# Altium integrated library NSC MiscPower.IntLib: 742 symbols (part 15 of 19)
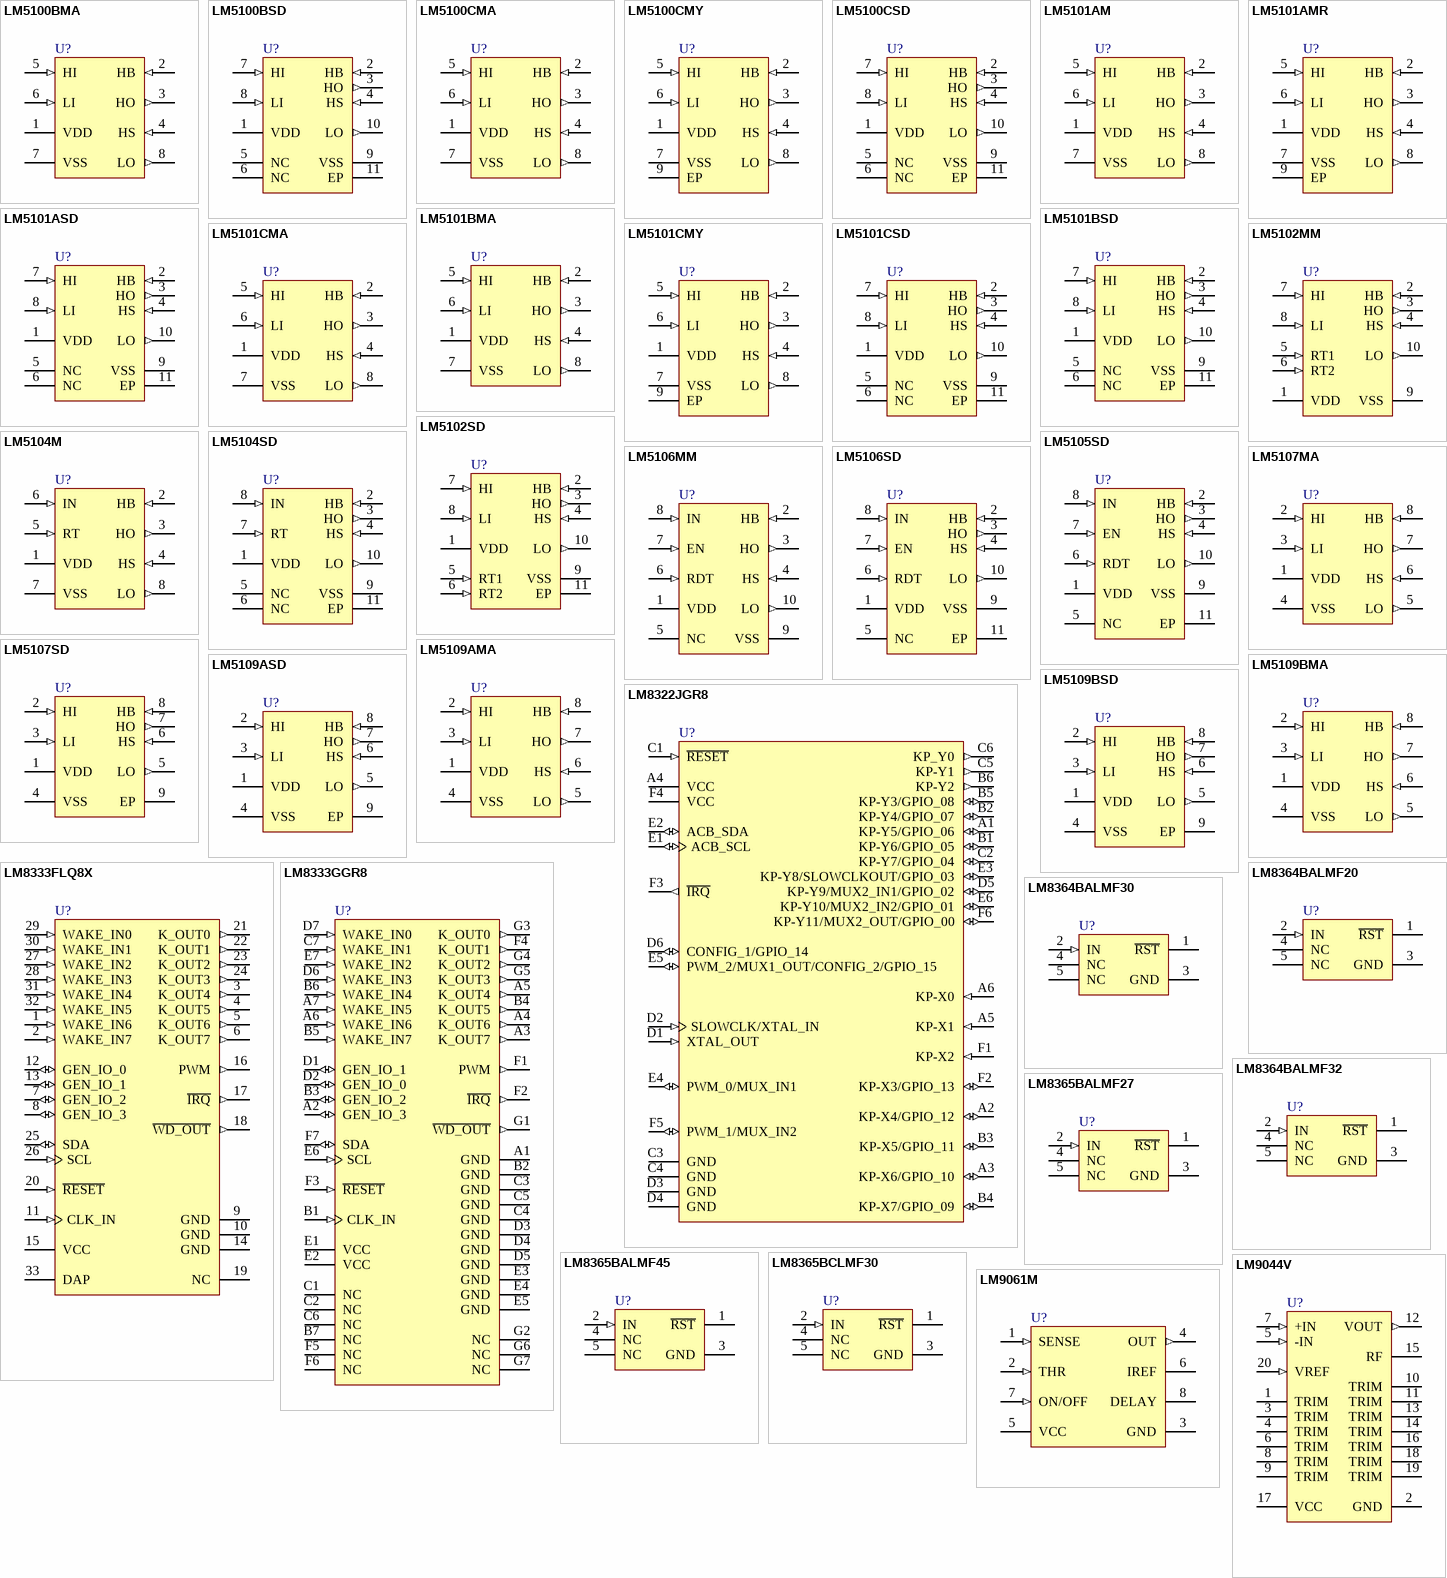
[diagram p39: symbols LM5100BMA to LM9061M]

## LM8364BALMF32
designator U?
Micropower Undervoltage Sensing Circuits, Open Drain Active Low Output, 3.2V Threshold; PartNumber: LM8364BALMF32; Manufacturer: National Semiconductor; CompType: MiscPower; PackageTopMarking: F16A*XTT; PowerWise: N; Published: 4-Dec-2008; DatasheetVersion: Mar-2005; PackageVersion: revD, Aug-2008; PackageReference: MF05A; Publisher: Altium Limited; PackageDescription: Molded SOT-23, .115 x .063 x .040 in Body, 5 Lead, .0375 in Pitch; RoHS: Y; PinCount: 5; DigiKeyPartNumber: LM8364BALMF32CT-ND; ComponentLink1Description: LM8364 Datasheet; ComponentLink1URL: http://www.national.com/ds/LM/LM8364.pdf; ComponentLink2Description: LM8364 Web Page; ComponentLink2URL: http://www.national.com/mpf/LM/LM8364.html; ComponentLink3Description: MF05A Package Page; ComponentLink3URL: http://www.national.com/packaging/folders/mf05a.html
footprint MF05A_N (SOT23, 5-Leads, Body 2.9x1.6mm, Pitch 0.95mm, Lead Span 2.8mm, IPC Medium Density)
footprint MF05A_L (SOT23, 5-Leads, Body 2.9x1.6mm, Pitch 0.95mm, Lead Span 2.8mm, IPC High Density)
footprint MF05A_M (SOT23, 5-Leads, Body 2.9x1.6mm, Pitch 0.95mm, Lead Span 2.8mm, IPC Low Density)
pins: 1 ~{RST} (oc), 2 IN (in), 3 GND (power), 4 NC, 5 NC

## LM8365BALMF27
designator U?
Micropower Undervoltage Sensing Circuits with Programmable Output Delay, 2.7V Threshold; PartNumber: LM8365BALMF27; Manufacturer: National Semiconductor; CompType: MiscPower; PackageTopMarking: F07A*XTT; PowerWise: N; Published: 4-Dec-2008; DatasheetVersion: Mar-2005; PackageVersion: revD, Aug-2008; PackageReference: MF05A; Publisher: Altium Limited; PackageDescription: Molded SOT-23, .115 x .063 x .040 in Body, 5 Lead, .0375 in Pitch; RoHS: Y; PinCount: 5; DigiKeyPartNumber: LM8365BALMF27CT-ND; ComponentLink1Description: LM8365 Datasheet; ComponentLink1URL: http://www.national.com/ds/LM/LM8365.pdf; ComponentLink2Description: LM8365 Web Page; ComponentLink2URL: http://www.national.com/mpf/LM/LM8365.html; ComponentLink3Description: MF05A Package Page; ComponentLink3URL: http://www.national.com/packaging/folders/mf05a.html
footprint MF05A_N (SOT23, 5-Leads, Body 2.9x1.6mm, Pitch 0.95mm, Lead Span 2.8mm, IPC Medium Density)
footprint MF05A_L (SOT23, 5-Leads, Body 2.9x1.6mm, Pitch 0.95mm, Lead Span 2.8mm, IPC High Density)
footprint MF05A_M (SOT23, 5-Leads, Body 2.9x1.6mm, Pitch 0.95mm, Lead Span 2.8mm, IPC Low Density)
pins: 1 ~{RST} (oc), 2 IN (in), 3 GND (power), 4 NC, 5 NC

## LM8365BALMF45
designator U?
Micropower Undervoltage Sensing Circuits with Programmable Output Delay, 4.5V Threshold; PartNumber: LM8365BALMF45; Manufacturer: National Semiconductor; CompType: MiscPower; PackageTopMarking: F06A*XTT; PowerWise: N; Published: 29-May-2009; DatasheetVersion: Mar-2005; PackageVersion: revD, Aug-2008; PackageReference: MF05A; Publisher: Altium Limited; PackageDescription: Molded SOT-23, .115 x .063 x .040 in Body, 5 Lead, .0375 in Pitch; RoHS: Y; PinCount: 5; DigiKeyPartNumber: LM8365BALMF45CT-ND; ComponentLink1Description: LM8365 Datasheet; ComponentLink1URL: http://www.national.com/ds/LM/LM8365.pdf; ComponentLink2Description: LM8365 Web Page; ComponentLink2URL: http://www.national.com/mpf/LM/LM8365.html; ComponentLink3Description: MF05A Package Page; ComponentLink3URL: http://www.national.com/packaging/folders/mf05a.html
footprint MF05A_N (SOT23, 5-Leads, Body 2.9x1.6mm, Pitch 0.95mm, Lead Span 2.8mm, IPC Medium Density)
footprint MF05A_L (SOT23, 5-Leads, Body 2.9x1.6mm, Pitch 0.95mm, Lead Span 2.8mm, IPC High Density)
footprint MF05A_M (SOT23, 5-Leads, Body 2.9x1.6mm, Pitch 0.95mm, Lead Span 2.8mm, IPC Low Density)
pins: 1 ~{RST} (oc), 2 IN (in), 3 GND (power), 4 NC, 5 NC

## LM8365BCLMF30
designator U?
Micropower Undervoltage Sensing Circuits with Programmable Output Delay, 3.0V Threshold; PartNumber: LM8365BCLMF30; Manufacturer: National Semiconductor; CompType: MiscPower; PackageTopMarking: F02A*XTT; PowerWise: N; Published: 29-May-2009; DatasheetVersion: Mar-2005; PackageVersion: revD, Aug-2008; PackageReference: MF05A; Publisher: Altium Limited; PackageDescription: Molded SOT-23, .115 x .063 x .040 in Body, 5 Lead, .0375 in Pitch; RoHS: O; PinCount: 5; DigiKeyPartNumber: LM8365BCLMF30CT-ND; ComponentLink1Description: LM8365 Datasheet; ComponentLink1URL: http://www.national.com/ds/LM/LM8365.pdf; ComponentLink2Description: LM8365 Web Page; ComponentLink2URL: http://www.national.com/mpf/LM/LM8365.html; ComponentLink3Description: MF05A Package Page; ComponentLink3URL: http://www.national.com/packaging/folders/mf05a.html
footprint MF05A_N (SOT23, 5-Leads, Body 2.9x1.6mm, Pitch 0.95mm, Lead Span 2.8mm, IPC Medium Density)
footprint MF05A_L (SOT23, 5-Leads, Body 2.9x1.6mm, Pitch 0.95mm, Lead Span 2.8mm, IPC High Density)
footprint MF05A_M (SOT23, 5-Leads, Body 2.9x1.6mm, Pitch 0.95mm, Lead Span 2.8mm, IPC Low Density)
pins: 1 ~{RST} (oc), 2 IN (in), 3 GND (power), 4 NC, 5 NC

## LM9044V
designator U?
Lambda Sensor Interface Amplifier; PartNumber: LM9044V; Manufacturer: National Semiconductor; CompType: MiscPower; PackageTopMarking: NSUZXYTT*LM9044V; PowerWise: N; Published: 4-Dec-2008; DatasheetVersion: Nov-2001; PackageVersion: revL, Dec-1993; PackageReference: V20A; Publisher: Altium Limited; PackageDescription: Plastic Chip Carrier, Sq., .050in Pitch, 20 Lead; RoHS: Y; PinCount: 20; DigiKeyPartNumber: LM9044V-ND; Code_JEDEC: MO-047-AA; Code_IPC: PLCC-20; ComponentLink1Description: LM9044 Datasheet; ComponentLink1URL: http://www.national.com/ds/LM/LM9044.pdf; ComponentLink2Description: LM9044 Web Page; ComponentLink2URL: http://www.national.com/pf/LM/LM9044.html; ComponentLink3Description: V20A Package Page; ComponentLink3URL: http://www.national.com/packaging/folders/v20a.html
footprint V20A_N (Leaded Chip Carrier, 20-Leads, Body 9x9mm, Pitch 1.27mm, IPC Medium Density)
footprint V20A_L (Leaded Chip Carrier, 20-Leads, Body 9x9mm, Pitch 1.27mm, IPC High Density)
footprint V20A_M (Leaded Chip Carrier, 20-Leads, Body 9x9mm, Pitch 1.27mm, IPC Low Density)
pins: 1 TRIM, 2 GND (power), 3 TRIM, 4 TRIM, 5 -IN (in), 6 TRIM, 7 +IN (in), 8 TRIM, 9 TRIM, 10 TRIM, 11 TRIM, 12 VOUT (out), 13 TRIM, 14 TRIM, 15 RF, 16 TRIM, 17 VCC (power), 18 TRIM, 19 TRIM, 20 VREF (in)

## LM9061M
designator U?
Power MOSFET Driver with Lossless Protection; PartNumber: LM9061M; Manufacturer: National Semiconductor; CompType: MiscPower; PackageTopMarking: NSZXTT*LM90*61M; PowerWise: N; Published: 4-Dec-2008; DatasheetVersion: Aug-2006; PackageVersion: revL, Sep-2006; PackageReference: M08A; Publisher: Altium Limited; PackageDescription: SOIC Narrow, 4.9 x 3.9 x 1.45mm, 8 Lead, 1.27mm Pitch; RoHS: O; PinCount: 8; DigiKeyPartNumber: LM9061M-ND; Code_JEDEC: MS-012-AA; Code_IPC: SOIC127P600-8; ComponentLink1Description: LM9061 Datasheet; ComponentLink1URL: http://www.national.com/ds/LM/LM9061.pdf; ComponentLink2Description: LM9061 Web Page; ComponentLink2URL: http://www.national.com/pf/LM/LM9061.html; ComponentLink3Description: M08A Package Page; ComponentLink3URL: http://www.national.com/packaging/folders/m08a.html
footprint M08A_N (SOIC, 8-Leads, Body 4.9x3.9mm, Pitch 1.27mm, IPC Medium Density)
footprint M08A_L (SOIC, 8-Leads, Body 4.9x3.9mm, Pitch 1.27mm, IPC High Density)
footprint M08A_M (SOIC, 8-Leads, Body 4.9x3.9mm, Pitch 1.27mm, IPC Low Density)
pins: 1 SENSE (in), 2 THR (in), 3 GND (power), 4 OUT (out), 5 VCC (power), 6 IREF, 7 ON/OFF (in), 8 DELAY

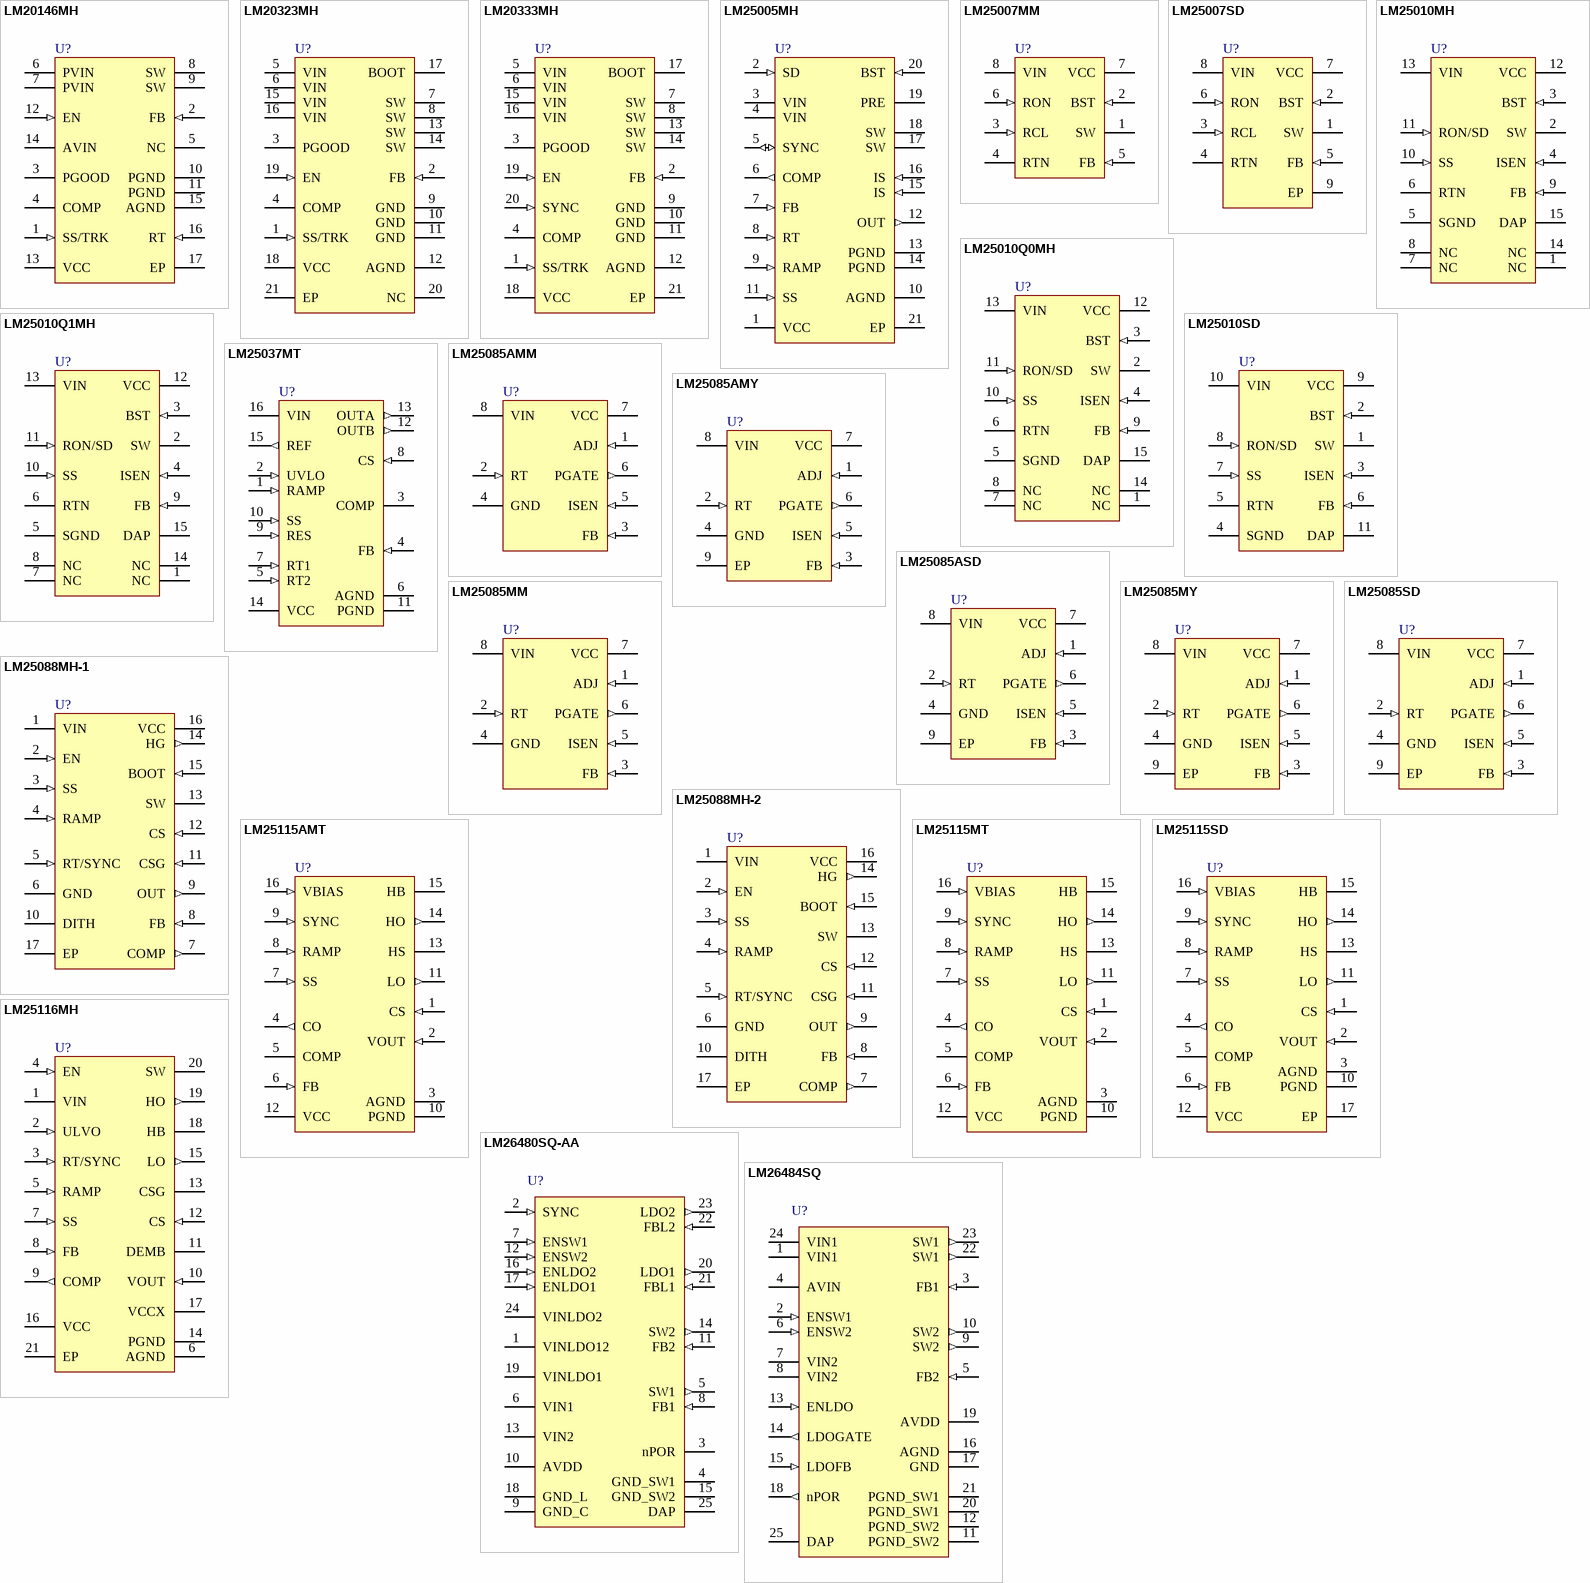
[diagram p17: symbols LM20146MH to LM26484SQ]

## LM20146MH
designator U?
6A, Adjustable Frequency Synchronous Buck Regulator; PartNumber: LM20146MH; Manufacturer: National Semiconductor; CompType: MiscPower; PackageTopMarking: NSUZXYTT*L20146*MH; PowerWise: Y; Published: 29-May-2009; DatasheetVersion: Feb-2009; PackageVersion: revA, Apr-2003; PackageReference: MXA16A; Publisher: Altium Limited; PackageDescription: Molded TSSOP, Jedec, Exposed Pad, 5.0 x 4.4 x 0.9mm Body,16 Lead, 0.65mm Pitch; RoHS: Y; PinCount: 16; DigiKeyPartNumber: LM20146MH-ND; Code_JEDEC: MO-153-ABT; ComponentLink1Description: LM20146 Datasheet; ComponentLink1URL: http://www.national.com/ds/LM/LM20146.pdf; ComponentLink2Description: LM20146 Web Page; ComponentLink2URL: http://www.national.com/pf/LM/LM20146.html; ComponentLink3Description: MXA16A Package Page; ComponentLink3URL: http://www.national.com/packaging/folders/mxa16a.html
footprint MXA16A_N (TSOP, 16-Leads, Body 5x4.4mm, Pitch 0.65mm, Exposed Pad, IPC Medium Density)
footprint MXA16A_L (TSOP, 16-Leads, Body 5x4.4mm, Pitch 0.65mm, Exposed Pad, IPC High Density)
footprint MXA16A_M (TSOP, 16-Leads, Body 5x4.4mm, Pitch 0.65mm, Exposed Pad, IPC Low Density)
pins: 1 SS/TRK (in), 2 FB (in), 3 PGOOD (oc), 4 COMP, 5 NC, 6 PVIN (power), 7 PVIN (power), 8 SW (power), 9 SW (power), 10 PGND (power), 11 PGND (power), 12 EN (in), 13 VCC (power), 14 AVIN (power), 15 AGND (power), 16 RT (in), 17 EP (power)

## LM20323MH
designator U?
36V,3A PowerWise 500 kHz Synchronous Buck Regulator Adjustable Frequency Synchronous Buck Regulator; PartNumber: LM20323MH; Manufacturer: National Semiconductor; CompType: MiscPower; PackageTopMarking: NSUZXYTT*20323MH; PowerWise: Y; Published: 4-Dec-2008; DatasheetVersion: Jun-2008; PackageVersion: revC, Jul-2006; PackageReference: MXA20A; Publisher: Altium Limited; PackageDescription: Molded TSSOP, Jedec, 6.5 x 4.4 x 0.9mm Body, 20 Lead, 0.65mm Pitch, Exposed Pad; RoHS: Y; PinCount: 20; DigiKeyPartNumber: LM20323MH-ND; Code_JEDEC: MO-153-ACT; ComponentLink1Description: LM20323 Datasheet; ComponentLink1URL: http://www.national.com/ds/LM/LM20323.pdf; ComponentLink2Description: LM20323 Web Page; ComponentLink2URL: http://www.national.com/pf/LM/LM20323.html; ComponentLink3Description: MXA20A Package Page; ComponentLink3URL: http://www.national.com/packaging/folders/mxa20a.html
footprint MXA20A_N (TSOP, 20-Leads, Body 6.5x4.4mm, Pitch 0.65mm, Exposed Pad, IPC Medium Density)
footprint MXA20A_L (TSOP, 20-Leads, Body 6.5x4.4mm, Pitch 0.65mm, Exposed Pad, IPC High Density)
footprint MXA20A_M (TSOP, 20-Leads, Body 6.5x4.4mm, Pitch 0.65mm, Exposed Pad, IPC Low Density)
pins: 1 SS/TRK (in), 2 FB (in), 3 PGOOD (oc), 4 COMP, 5 VIN (power), 6 VIN (power), 7 SW (power), 8 SW (power), 9 GND (power), 10 GND (power), 11 GND (power), 12 AGND (power), 13 SW (power), 14 SW (power), 15 VIN (power), 16 VIN (power), 17 BOOT, 18 VCC (power), 19 EN (in), 20 NC, 21 EP (power)

## LM20333MH
designator U?
36V, 3A PowerWise Synchronous Buck Regulator with Frequency Synchronization Adjustable Frequency Synchronous Buck Regulator; PartNumber: LM20333MH; Manufacturer: National Semiconductor; CompType: MiscPower; PackageTopMarking: NSUZXYTT*20333MH; PowerWise: Y; Published: 4-Dec-2008; DatasheetVersion: Jun-2008; PackageVersion: revC, Jul-2006; PackageReference: MXA20A; Publisher: Altium Limited; PackageDescription: Molded TSSOP, Jedec, 6.5 x 4.4 x 0.9mm Body, 20 Lead, 0.65mm Pitch, Exposed Pad; RoHS: Y; PinCount: 20; DigiKeyPartNumber: LM20333MH-ND; Code_JEDEC: MO-153-ACT; ComponentLink1Description: LM20333 Datasheet; ComponentLink1URL: http://www.national.com/ds/LM/LM20333.pdf; ComponentLink2Description: LM20333 Web Page; ComponentLink2URL: http://www.national.com/pf/LM/LM20333.html; ComponentLink3Description: MXA20A Package Page; ComponentLink3URL: http://www.national.com/packaging/folders/mxa20a.html
footprint MXA20A_N (TSOP, 20-Leads, Body 6.5x4.4mm, Pitch 0.65mm, Exposed Pad, IPC Medium Density)
footprint MXA20A_L (TSOP, 20-Leads, Body 6.5x4.4mm, Pitch 0.65mm, Exposed Pad, IPC High Density)
footprint MXA20A_M (TSOP, 20-Leads, Body 6.5x4.4mm, Pitch 0.65mm, Exposed Pad, IPC Low Density)
pins: 1 SS/TRK (in), 2 FB (in), 3 PGOOD (oc), 4 COMP, 5 VIN (power), 6 VIN (power), 7 SW (power), 8 SW (power), 9 GND (power), 10 GND (power), 11 GND (power), 12 AGND (power), 13 SW (power), 14 SW (power), 15 VIN (power), 16 VIN (power), 17 BOOT, 18 VCC (power), 19 EN (in), 20 SYNC (in), 21 EP (power)

## LM25005MH
designator U?
42V, 2.5A Step-Down Switching Regulator; PartNumber: LM25005MH; Manufacturer: National Semiconductor; CompType: MiscPower; PackageTopMarking: NSUZXYTT*LM25005*MH; PowerWise: N; Published: 4-Dec-2008; DatasheetVersion: Mar-2006; PackageVersion: revC, Jul-2006; PackageReference: MXA20A; Publisher: Altium Limited; PackageDescription: Molded TSSOP, Jedec, 6.5 x 4.4 x 0.9mm Body, 20 Lead, 0.65mm Pitch, Exposed Pad; RoHS: Y; PinCount: 20; DigiKeyPartNumber: LM25005MH-ND; Code_JEDEC: MO-153-ACT; ComponentLink1Description: LM25005 Datasheet; ComponentLink1URL: http://www.national.com/ds/LM/LM25005.pdf; ComponentLink2Description: LM25005 Web Page; ComponentLink2URL: http://www.national.com/pf/LM/LM25005.html; ComponentLink3Description: MXA20A Package Page; ComponentLink3URL: http://www.national.com/packaging/folders/mxa20a.html
footprint MXA20A_N (TSOP, 20-Leads, Body 6.5x4.4mm, Pitch 0.65mm, Exposed Pad, IPC Medium Density)
footprint MXA20A_L (TSOP, 20-Leads, Body 6.5x4.4mm, Pitch 0.65mm, Exposed Pad, IPC High Density)
footprint MXA20A_M (TSOP, 20-Leads, Body 6.5x4.4mm, Pitch 0.65mm, Exposed Pad, IPC Low Density)
pins: 1 VCC (power), 2 SD (in), 3 VIN (power), 4 VIN (power), 5 SYNC (io), 6 COMP (out), 7 FB (in), 8 RT (in), 9 RAMP (in), 10 AGND (power), 11 SS (in), 12 OUT (out), 13 PGND (power), 14 PGND (power), 15 IS (in), 16 IS (in), 17 SW (power), 18 SW (power), 19 PRE (oc), 20 BST (in), 21 EP (power)

## LM25007MM
designator U?
42V, 0.5A Step-Down Switching Regulator; PartNumber: LM25007MM; Manufacturer: National Semiconductor; CompType: MiscPower; PackageTopMarking: ZXTT*SLYB; PowerWise: N; Published: 4-Dec-2008; DatasheetVersion: Feb-2008; PackageVersion: revF, Apr-2008; PackageReference: MUA08A; Publisher: Altium Limited; PackageDescription: MINI SOIC, .118 x .118 x .034in, 8 Lead, .0256in Pitch; RoHS: Y; PinCount: 8; DigiKeyPartNumber: LM25007MMCT-ND; Code_JEDEC: MO-187-AA; ComponentLink1Description: LM25007 Datasheet; ComponentLink1URL: http://www.national.com/ds/LM/LM25007.pdf; ComponentLink2Description: LM25007 Web Page; ComponentLink2URL: http://www.national.com/pf/LM/LM25007.html; ComponentLink3Description: MUA08A Package Page; ComponentLink3URL: http://www.national.com/packaging/folders/mua08a.html
footprint MUA08A_N (TSOP, 8-Leads, Body 3x3mm, Pitch 0.65mm, IPC Medium Density)
footprint MUA08A_L (TSOP, 8-Leads, Body 3x3mm, Pitch 0.65mm, IPC High Density)
footprint MUA08A_M (TSOP, 8-Leads, Body 3x3mm, Pitch 0.65mm, IPC Low Density)
pins: 1 SW (power), 2 BST (in), 3 RCL (in), 4 RTN (power), 5 FB (in), 6 RON (in), 7 VCC (power), 8 VIN (power)

## LM25007SD
designator U?
42V, 0.5A Step-Down Switching Regulator; PartNumber: LM25007SD; Manufacturer: National Semiconductor; CompType: MiscPower; PackageTopMarking: NS*UZXYTT*25007SD; PowerWise: N; Published: 4-Dec-2008; DatasheetVersion: Feb-2008; PackageVersion: revA, Jun-2003; PackageReference: SDC08A; Publisher: Altium Limited; PackageDescription: LLP, Plastic, Dual, 4 x 4 x 0.8mm Body, 8 Lead, 0.8mm Pitch, No Pullback; RoHS: Y; PinCount: 8; DigiKeyPartNumber: LM25007SDCT-ND; ComponentLink1Description: LM25007 Datasheet; ComponentLink1URL: http://www.national.com/ds/LM/LM25007.pdf; ComponentLink2Description: LM25007 Web Page; ComponentLink2URL: http://www.national.com/pf/LM/LM25007.html; ComponentLink3Description: SDC08A Package Page; ComponentLink3URL: http://www.national.com/packaging/folders/sdc08a.html
footprint SDC08A (SON, 8-Leads, Body 4x4mm, Pitch 0.8mm, NSC Recommended)
pins: 1 SW (power), 2 BST (in), 3 RCL (in), 4 RTN (power), 5 FB (in), 6 RON (in), 7 VCC (power), 8 VIN (power), 9 EP (power)

## LM25010MH
designator U?
42V, 1.0A Step-Down Switching Regulator; PartNumber: LM25010MH; Manufacturer: National Semiconductor; CompType: MiscPower; PackageTopMarking: NSUZXYTT*L25010*MH; PowerWise: N; Published: 4-Dec-2008; DatasheetVersion: Dec-2008; PackageVersion: revA, Feb-2003; PackageReference: MXA14A; Publisher: Altium Limited; PackageDescription: Molded TSSOP, JEDEC, Exposed Pad, 5.0 x 4.4 x 0.9mm Body, 14 Lead, 0.65mm Pitch; RoHS: Y; PinCount: 14; DigiKeyPartNumber: LM25010MH-ND; Code_JEDEC: MO-153-ABT-1; ComponentLink1Description: LM25010 Datasheet; ComponentLink1URL: http://www.national.com/ds/LM/LM25010.pdf; ComponentLink2Description: LM25010 Web Page; ComponentLink2URL: http://www.national.com/pf/LM/LM25010.html; ComponentLink3Description: MXA14A Package Page; ComponentLink3URL: http://www.national.com/packaging/folders/mxa14a.html
footprint MXA14A_N (TSOP, 14-Leads, Body 5x4.4mm, Pitch 0.65mm, Exposed Pad, IPC Medium Density)
footprint MXA14A_L (TSOP, 14-Leads, Body 5x4.4mm, Pitch 0.65mm, Exposed Pad, IPC High Density)
footprint MXA14A_M (TSOP, 14-Leads, Body 5x4.4mm, Pitch 0.65mm, Exposed Pad, IPC Low Density)
pins: 1 NC, 2 SW (power), 3 BST (in), 4 ISEN (in), 5 SGND (power), 6 RTN (power), 7 NC, 8 NC, 9 FB (in), 10 SS (in), 11 RON/SD (in), 12 VCC (power), 13 VIN (power), 14 NC, 15 DAP (power)

## LM25010Q0MH
designator U?
42V, 1.0A Step-Down Switching Regulator, Automotive Grade 0; PartNumber: LM25010Q0MH; Manufacturer: National Semiconductor; CompType: MiscPower; PackageTopMarking: NSUZXYTT*L25010*Q0MH; PowerWise: N; Published: 29-May-2009; DatasheetVersion: Dec-2008; PackageVersion: revA, Feb-2003; PackageReference: MXA14A; Publisher: Altium Limited; PackageDescription: Molded TSSOP, JEDEC, Exposed Pad, 5.0 x 4.4 x 0.9mm Body, 14 Lead, 0.65mm Pitch; RoHS: Y; PinCount: 14; Code_JEDEC: MO-153-ABT-1; ComponentLink1Description: LM25010 Datasheet; ComponentLink1URL: http://www.national.com/ds/LM/LM25010.pdf; ComponentLink2Description: LM25010 Web Page; ComponentLink2URL: http://www.national.com/pf/LM/LM25010.html; ComponentLink3Description: MXA14A Package Page; ComponentLink3URL: http://www.national.com/packaging/folders/mxa14a.html
footprint MXA14A_N (TSOP, 14-Leads, Body 5x4.4mm, Pitch 0.65mm, Exposed Pad, IPC Medium Density)
footprint MXA14A_L (TSOP, 14-Leads, Body 5x4.4mm, Pitch 0.65mm, Exposed Pad, IPC High Density)
footprint MXA14A_M (TSOP, 14-Leads, Body 5x4.4mm, Pitch 0.65mm, Exposed Pad, IPC Low Density)
pins: 1 NC, 2 SW (power), 3 BST (in), 4 ISEN (in), 5 SGND (power), 6 RTN (power), 7 NC, 8 NC, 9 FB (in), 10 SS (in), 11 RON/SD (in), 12 VCC (power), 13 VIN (power), 14 NC, 15 DAP (power)

## LM25010Q1MH
designator U?
42V, 1.0A Step-Down Switching Regulator, Automotive Grade 1; PartNumber: LM25010Q1MH; Manufacturer: National Semiconductor; CompType: MiscPower; PackageTopMarking: NSUZXYTT*L25010*Q1MH; PowerWise: N; Published: 29-May-2009; DatasheetVersion: Dec-2008; PackageVersion: revA, Feb-2003; PackageReference: MXA14A; Publisher: Altium Limited; PackageDescription: Molded TSSOP, JEDEC, Exposed Pad, 5.0 x 4.4 x 0.9mm Body, 14 Lead, 0.65mm Pitch; RoHS: Y; PinCount: 14; Code_JEDEC: MO-153-ABT-1; ComponentLink1Description: LM25010 Datasheet; ComponentLink1URL: http://www.national.com/ds/LM/LM25010.pdf; ComponentLink2Description: LM25010 Web Page; ComponentLink2URL: http://www.national.com/pf/LM/LM25010.html; ComponentLink3Description: MXA14A Package Page; ComponentLink3URL: http://www.national.com/packaging/folders/mxa14a.html
footprint MXA14A_N (TSOP, 14-Leads, Body 5x4.4mm, Pitch 0.65mm, Exposed Pad, IPC Medium Density)
footprint MXA14A_L (TSOP, 14-Leads, Body 5x4.4mm, Pitch 0.65mm, Exposed Pad, IPC High Density)
footprint MXA14A_M (TSOP, 14-Leads, Body 5x4.4mm, Pitch 0.65mm, Exposed Pad, IPC Low Density)
pins: 1 NC, 2 SW (power), 3 BST (in), 4 ISEN (in), 5 SGND (power), 6 RTN (power), 7 NC, 8 NC, 9 FB (in), 10 SS (in), 11 RON/SD (in), 12 VCC (power), 13 VIN (power), 14 NC, 15 DAP (power)

## LM25010SD
designator U?
42V, 1.0A Step-Down Switching Regulator; PartNumber: LM25010SD; Manufacturer: National Semiconductor; CompType: MiscPower; PackageTopMarking: NS*UZXYTT*25010SD; PowerWise: N; Published: 4-Dec-2008; DatasheetVersion: Dec-2008; PackageVersion: revA, May-2003; PackageReference: SDC10A; Publisher: Altium Limited; PackageDescription: LLP, Plastic, Dual, 4 x 4 x 0.8mm Body, 10 Lead, 0.8mm Pitch, No Pullback; RoHS: Y; PinCount: 10; DigiKeyPartNumber: LM25010SDCT-ND; ComponentLink1Description: LM25010 Datasheet; ComponentLink1URL: http://www.national.com/ds/LM/LM25010.pdf; ComponentLink2Description: LM25010 Web Page; ComponentLink2URL: http://www.national.com/pf/LM/LM25010.html; ComponentLink3Description: SDC10A Package Page; ComponentLink3URL: http://www.national.com/packaging/folders/sdc10a.html
footprint SDC10A (SON, 10-Leads, Body 4x4 mm, Pitch 0.8mm, NSC Recommended)
pins: 1 SW (power), 2 BST (in), 3 ISEN (in), 4 SGND (power), 5 RTN (power), 6 FB (in), 7 SS (in), 8 RON/SD (in), 9 VCC (power), 10 VIN (power), 11 DAP (power)

## LM25037MT
designator U?
Dual-Mode PWM Controller With Alternating Outputs; PartNumber: LM25037MT; Manufacturer: National Semiconductor; CompType: MiscPower; PackageTopMarking: NSUZXYTT*L25037*MT; PowerWise: Y; Published: 4-Dec-2008; DatasheetVersion: Jul-2008; PackageVersion: revD, Jun-2003; PackageReference: MTC16; Publisher: Altium Limited; PackageDescription: Molded TSSOP, Jedec, 5 x 4.4 x 0.9mm Body, 16 Lead, 0.65mm Pitch; RoHS: Y; PinCount: 16; DigiKeyPartNumber: LM25037MT-ND; Code_JEDEC: MO-153-AB; ComponentLink1Description: LM25037 Datasheet; ComponentLink1URL: http://www.national.com/ds/LM/LM25037.pdf; ComponentLink2Description: LM25037 Web Page; ComponentLink2URL: http://www.national.com/pf/LM/LM25037.html; ComponentLink3Description: MTC16 Package Page; ComponentLink3URL: http://www.national.com/packaging/folders/mtc16.html
footprint MTC16_N (TSOP, 16-Leads, Body 5x4.4mm, Pitch 0.65mm, IPC Medium Density)
footprint MTC16_L (TSOP, 16-Leads, Body 5x4.4mm, Pitch 0.65mm, IPC High Density)
footprint MTC16_M (TSOP, 16-Leads, Body 5x4.4mm, Pitch 0.65mm, IPC Low Density)
pins: 1 RAMP (in), 2 UVLO (in), 3 COMP, 4 FB (in), 5 RT2 (in), 6 AGND (power), 7 RT1 (in), 8 CS (in), 9 RES (in), 10 SS (in), 11 PGND (power), 12 OUTB (out), 13 OUTA (out), 14 VCC (power), 15 REF (out), 16 VIN (power)

## LM25085AMM
designator U?
42V Constant On-Time PFET Buck Switching Controller with 0.9V Reference; PartNumber: LM25085AMM; Manufacturer: National Semiconductor; CompType: MiscPower; PackageTopMarking: ZXTT*SVZA; PowerWise: N; Published: 29-May-2009; DatasheetVersion: Mar-2009; PackageVersion: revF, Apr-2008; PackageReference: MUA08A; Publisher: Altium Limited; PackageDescription: MINI SOIC, .118 x .118 x .034in, 8 Lead, .0256in Pitch; RoHS: Y; PinCount: 8; Code_JEDEC: MO-187-AA; ComponentLink1Description: LM25085 Datasheet; ComponentLink1URL: http://www.national.com/ds/LM/LM25085A.pdf; ComponentLink2Description: LM25085 Web Page; ComponentLink2URL: http://www.national.com/pf/LM/LM25085A.html; ComponentLink3Description: MUA08A Package Page; ComponentLink3URL: http://www.national.com/packaging/folders/mua08a.html
footprint MUA08A_N (TSOP, 8-Leads, Body 3x3mm, Pitch 0.65mm, IPC Medium Density)
footprint MUA08A_L (TSOP, 8-Leads, Body 3x3mm, Pitch 0.65mm, IPC High Density)
footprint MUA08A_M (TSOP, 8-Leads, Body 3x3mm, Pitch 0.65mm, IPC Low Density)
pins: 1 ADJ (in), 2 RT (in), 3 FB (in), 4 GND (power), 5 ISEN (in), 6 PGATE (out), 7 VCC (power), 8 VIN (power)

## LM25085AMY
designator U?
42V Constant On-Time PFET Buck Switching Controller with 0.9V Reference; PartNumber: LM25085AMY; Manufacturer: National Semiconductor; CompType: MiscPower; PackageTopMarking: ZXTT*SVYA; PowerWise: N; Published: 29-May-2009; DatasheetVersion: Mar-2009; PackageVersion: revA, Nov-2003; PackageReference: MUY08A; Publisher: Altium Limited; PackageDescription: Molded Mini-SO, Exposed Pad, .118 x .118 x .034in Body, 8 Lead, .0256in Pitch; RoHS: Y; PinCount: 8; Code_JEDEC: MO-187-AA; ComponentLink1Description: LM25085 Datasheet; ComponentLink1URL: http://www.national.com/ds/LM/LM25085A.pdf; ComponentLink2Description: LM25085 Web Page; ComponentLink2URL: http://www.national.com/pf/LM/LM25085A.html; ComponentLink3Description: MUY08A Package Page; ComponentLink3URL: http://www.national.com/packaging/folders/muy08a.html
footprint MUY08A_N (TSOP, 8-Leads, Body 3x3mm, Pitch 0.65mm, Exposed Pad, IPC Medium Density)
footprint MUY08A_L (TSOP, 8-Leads, Body 3x3mm, Pitch 0.65mm, Exposed Pad, IPC High Density)
footprint MUY08A_M (TSOP, 8-Leads, Body 3x3mm, Pitch 0.65mm, Exposed Pad, IPC Low Density)
pins: 1 ADJ (in), 2 RT (in), 3 FB (in), 4 GND (power), 5 ISEN (in), 6 PGATE (out), 7 VCC (power), 8 VIN (power), 9 EP (power)

## LM25085ASD
designator U?
42V Constant On-Time PFET Buck Switching Controller with 0.9V Reference; PartNumber: LM25085ASD; Manufacturer: National Semiconductor; CompType: MiscPower; PackageTopMarking: ZXYTT*L246A; PowerWise: N; Published: 29-May-2009; DatasheetVersion: Mar-2009; PackageVersion: revA, Aug-2003; PackageReference: SDA08A; Publisher: Altium Limited; PackageDescription: LLP, Plastic, Dual, 3 x 3 x 0.8mm Body, 8 Lead, 0.5mm Pitch, No Pullback; RoHS: Y; PinCount: 8; ComponentLink1Description: LM25085 Datasheet; ComponentLink1URL: http://www.national.com/ds/LM/LM25085A.pdf; ComponentLink2Description: LM25085 Web Page; ComponentLink2URL: http://www.national.com/pf/LM/LM25085A.html; ComponentLink3Description: SDA08A Package Page; ComponentLink3URL: http://www.national.com/packaging/folders/sda08a.html
footprint SDA08A (SON, 8-Leads, Body 3x3mm, Pitch 0.5mm, NSC Recommended)
pins: 1 ADJ (in), 2 RT (in), 3 FB (in), 4 GND (power), 5 ISEN (in), 6 PGATE (out), 7 VCC (power), 8 VIN (power), 9 EP (power)

## LM25085MM
designator U?
42V Constant On-Time PFET Buck Switching Controller, PowerWise; PartNumber: LM25085MM; Manufacturer: National Semiconductor; CompType: MiscPower; PackageTopMarking: ZXTT*SVZB; PowerWise: Y; Published: 29-May-2009; DatasheetVersion: Feb-2009; PackageVersion: revF, Apr-2008; PackageReference: MUA08A; Publisher: Altium Limited; PackageDescription: MINI SOIC, .118 x .118 x .034in, 8 Lead, .0256in Pitch; RoHS: Y; PinCount: 8; DigiKeyPartNumber: LM25085MMCT-ND; Code_JEDEC: MO-187-AA; ComponentLink1Description: LM25085 Datasheet; ComponentLink1URL: http://www.national.com/ds/LM/LM25085.pdf; ComponentLink2Description: LM25085 Web Page; ComponentLink2URL: http://www.national.com/pf/LM/LM25085.html; ComponentLink3Description: MUA08A Package Page; ComponentLink3URL: http://www.national.com/packaging/folders/mua08a.html
footprint MUA08A_N (TSOP, 8-Leads, Body 3x3mm, Pitch 0.65mm, IPC Medium Density)
footprint MUA08A_L (TSOP, 8-Leads, Body 3x3mm, Pitch 0.65mm, IPC High Density)
footprint MUA08A_M (TSOP, 8-Leads, Body 3x3mm, Pitch 0.65mm, IPC Low Density)
pins: 1 ADJ (in), 2 RT (in), 3 FB (in), 4 GND (power), 5 ISEN (in), 6 PGATE (out), 7 VCC (power), 8 VIN (power)

## LM25085MY
designator U?
42V Constant On-Time PFET Buck Switching Controller, PowerWise; PartNumber: LM25085MY; Manufacturer: National Semiconductor; CompType: MiscPower; PackageTopMarking: ZXTT*SVYB; PowerWise: Y; Published: 29-May-2009; DatasheetVersion: Feb-2009; PackageVersion: revA, Nov-2003; PackageReference: MUY08A; Publisher: Altium Limited; PackageDescription: Molded Mini-SO, Exposed Pad, .118 x .118 x .034in Body, 8 Lead, .0256in Pitch; RoHS: Y; PinCount: 8; DigiKeyPartNumber: LM25085MY-ND; Code_JEDEC: MO-187-AA; ComponentLink1Description: LM25085 Datasheet; ComponentLink1URL: http://www.national.com/ds/LM/LM25085.pdf; ComponentLink2Description: LM25085 Web Page; ComponentLink2URL: http://www.national.com/pf/LM/LM25085.html; ComponentLink3Description: MUY08A Package Page; ComponentLink3URL: http://www.national.com/packaging/folders/muy08a.html
footprint MUY08A_N (TSOP, 8-Leads, Body 3x3mm, Pitch 0.65mm, Exposed Pad, IPC Medium Density)
footprint MUY08A_L (TSOP, 8-Leads, Body 3x3mm, Pitch 0.65mm, Exposed Pad, IPC High Density)
footprint MUY08A_M (TSOP, 8-Leads, Body 3x3mm, Pitch 0.65mm, Exposed Pad, IPC Low Density)
pins: 1 ADJ (in), 2 RT (in), 3 FB (in), 4 GND (power), 5 ISEN (in), 6 PGATE (out), 7 VCC (power), 8 VIN (power), 9 EP (power)

## LM25085SD
designator U?
42V Constant On-Time PFET Buck Switching Controller, PowerWise; PartNumber: LM25085SD; Manufacturer: National Semiconductor; CompType: MiscPower; PackageTopMarking: ZXYTT*L246B; PowerWise: Y; Published: 29-May-2009; DatasheetVersion: Feb-2009; PackageVersion: revA, Aug-2003; PackageReference: SDA08A; Publisher: Altium Limited; PackageDescription: LLP, Plastic, Dual, 3 x 3 x 0.8mm Body, 8 Lead, 0.5mm Pitch, No Pullback; RoHS: Y; PinCount: 8; DigiKeyPartNumber: LM25085SD-ND; ComponentLink1Description: LM25085 Datasheet; ComponentLink1URL: http://www.national.com/ds/LM/LM25085.pdf; ComponentLink2Description: LM25085 Web Page; ComponentLink2URL: http://www.national.com/pf/LM/LM25085.html; ComponentLink3Description: SDA08A Package Page; ComponentLink3URL: http://www.national.com/packaging/folders/sda08a.html
footprint SDA08A (SON, 8-Leads, Body 3x3mm, Pitch 0.5mm, NSC Recommended)
pins: 1 ADJ (in), 2 RT (in), 3 FB (in), 4 GND (power), 5 ISEN (in), 6 PGATE (out), 7 VCC (power), 8 VIN (power), 9 EP (power)

## LM25088MH-1
designator U?
Wide Input Range Non-Synchronous Buck Controller, PowerWise; PartNumber: LM25088MH-1; Manufacturer: National Semiconductor; CompType: MiscPower; PackageTopMarking: NSUZXYTT*L25088*MH-1; PowerWise: Y; Published: 29-May-2009; DatasheetVersion: Dec-2008; PackageVersion: revA, Apr-2003; PackageReference: MXA16A; Publisher: Altium Limited; PackageDescription: Molded TSSOP, Jedec, Exposed Pad, 5.0 x 4.4 x 0.9mm Body,16 Lead, 0.65mm Pitch; RoHS: Y; PinCount: 16; DigiKeyPartNumber: LM25088MH-1-ND; Code_JEDEC: MO-153-ABT; ComponentLink1Description: LM25088 Datasheet; ComponentLink1URL: http://www.national.com/ds/LM/LM25088.pdf; ComponentLink2Description: LM25088 Web Page; ComponentLink2URL: http://www.national.com/pf/LM/LM25088.html; ComponentLink3Description: MXA16A Package Page; ComponentLink3URL: http://www.national.com/packaging/folders/mxa16a.html
footprint MXA16A_N (TSOP, 16-Leads, Body 5x4.4mm, Pitch 0.65mm, Exposed Pad, IPC Medium Density)
footprint MXA16A_L (TSOP, 16-Leads, Body 5x4.4mm, Pitch 0.65mm, Exposed Pad, IPC High Density)
footprint MXA16A_M (TSOP, 16-Leads, Body 5x4.4mm, Pitch 0.65mm, Exposed Pad, IPC Low Density)
pins: 1 VIN (power), 2 EN (in), 3 SS (in), 4 RAMP (in), 5 RT/SYNC (in), 6 GND (power), 7 COMP (out), 8 FB (in), 9 OUT (out), 10 DITH (power), 11 CSG (in), 12 CS (in), 13 SW, 14 HG (out), 15 BOOT (in), 16 VCC (power), 17 EP (power)

## LM25088MH-2
designator U?
Wide Input Range Non-Synchronous Buck Controller, PowerWise; PartNumber: LM25088MH-2; Manufacturer: National Semiconductor; CompType: MiscPower; PackageTopMarking: NSUZXYTT*L25088*MH-2; PowerWise: Y; Published: 29-May-2009; DatasheetVersion: Dec-2008; PackageVersion: revA, Apr-2003; PackageReference: MXA16A; Publisher: Altium Limited; PackageDescription: Molded TSSOP, Jedec, Exposed Pad, 5.0 x 4.4 x 0.9mm Body,16 Lead, 0.65mm Pitch; RoHS: Y; PinCount: 16; DigiKeyPartNumber: LM25088MH-2-ND; Code_JEDEC: MO-153-ABT; ComponentLink1Description: LM25088 Datasheet; ComponentLink1URL: http://www.national.com/ds/LM/LM25088.pdf; ComponentLink2Description: LM25088 Web Page; ComponentLink2URL: http://www.national.com/pf/LM/LM25088.html; ComponentLink3Description: MXA16A Package Page; ComponentLink3URL: http://www.national.com/packaging/folders/mxa16a.html
footprint MXA16A_N (TSOP, 16-Leads, Body 5x4.4mm, Pitch 0.65mm, Exposed Pad, IPC Medium Density)
footprint MXA16A_L (TSOP, 16-Leads, Body 5x4.4mm, Pitch 0.65mm, Exposed Pad, IPC High Density)
footprint MXA16A_M (TSOP, 16-Leads, Body 5x4.4mm, Pitch 0.65mm, Exposed Pad, IPC Low Density)
pins: 1 VIN (power), 2 EN (in), 3 SS (in), 4 RAMP (in), 5 RT/SYNC (in), 6 GND (power), 7 COMP (out), 8 FB (in), 9 OUT (out), 10 DITH (power), 11 CSG (in), 12 CS (in), 13 SW, 14 HG (out), 15 BOOT (in), 16 VCC (power), 17 EP (power)

## LM25115AMT
designator U?
Secondary Side Post Regulator/DC-DC Converter with Power-Up/Power-Down Tracking; PartNumber: LM25115AMT; Manufacturer: National Semiconductor; CompType: MiscPower; PackageTopMarking: NSUZXYTT*L25115*AMT; PowerWise: N; Published: 4-Dec-2008; DatasheetVersion: Nov-2005; PackageVersion: revD, Jun-2003; PackageReference: MTC16; Publisher: Altium Limited; PackageDescription: Molded TSSOP, Jedec, 5 x 4.4 x 0.9mm Body, 16 Lead, 0.65mm Pitch; RoHS: Y; PinCount: 16; DigiKeyPartNumber: LM25115AMT-ND; Code_JEDEC: MO-153-AB; ComponentLink1Description: LM25115A Datasheet; ComponentLink1URL: http://www.national.com/ds/LM/LM25115A.pdf; ComponentLink2Description: LM25115A Web Page; ComponentLink2URL: http://www.national.com/pf/LM/LM25115A.html; ComponentLink3Description: MTC16 Package Page; ComponentLink3URL: http://www.national.com/packaging/folders/mtc16.html
footprint MTC16_N (TSOP, 16-Leads, Body 5x4.4mm, Pitch 0.65mm, IPC Medium Density)
footprint MTC16_L (TSOP, 16-Leads, Body 5x4.4mm, Pitch 0.65mm, IPC High Density)
footprint MTC16_M (TSOP, 16-Leads, Body 5x4.4mm, Pitch 0.65mm, IPC Low Density)
pins: 1 CS (in), 2 VOUT (in), 3 AGND (power), 4 CO (out), 5 COMP, 6 FB (in), 7 SS (in), 8 RAMP (in), 9 SYNC (in), 10 PGND (power), 11 LO (out), 12 VCC (power), 13 HS, 14 HO (out), 15 HB, 16 VBIAS (in)

## LM25115MT
designator U?
Secondary Side Post Regulator Controller; PartNumber: LM25115MT; Manufacturer: National Semiconductor; CompType: MiscPower; PackageTopMarking: NSUZXYTT*L25115*MT; PowerWise: N; Published: 4-Dec-2008; DatasheetVersion: Nov-2005; PackageVersion: revD, Jun-2003; PackageReference: MTC16; Publisher: Altium Limited; PackageDescription: Molded TSSOP, Jedec, 5 x 4.4 x 0.9mm Body, 16 Lead, 0.65mm Pitch; RoHS: Y; PinCount: 16; DigiKeyPartNumber: LM25115MT-ND; Code_JEDEC: MO-153-AB; ComponentLink1Description: LM25115 Datasheet; ComponentLink1URL: http://www.national.com/ds/LM/LM25115.pdf; ComponentLink2Description: LM25115 Web Page; ComponentLink2URL: http://www.national.com/pf/LM/LM25115.html; ComponentLink3Description: MTC16 Package Page; ComponentLink3URL: http://www.national.com/packaging/folders/mtc16.html
footprint MTC16_N (TSOP, 16-Leads, Body 5x4.4mm, Pitch 0.65mm, IPC Medium Density)
footprint MTC16_L (TSOP, 16-Leads, Body 5x4.4mm, Pitch 0.65mm, IPC High Density)
footprint MTC16_M (TSOP, 16-Leads, Body 5x4.4mm, Pitch 0.65mm, IPC Low Density)
pins: 1 CS (in), 2 VOUT (in), 3 AGND (power), 4 CO (out), 5 COMP, 6 FB (in), 7 SS (in), 8 RAMP (in), 9 SYNC (in), 10 PGND (power), 11 LO (out), 12 VCC (power), 13 HS, 14 HO (out), 15 HB, 16 VBIAS (in)

## LM25115SD
designator U?
Secondary Side Post Regulator Controller; PartNumber: LM25115SD; Manufacturer: National Semiconductor; CompType: MiscPower; PackageTopMarking: NS*UZXYTT*L25115; PowerWise: N; Published: 4-Dec-2008; DatasheetVersion: Nov-2005; PackageVersion: revA, May-2003; PackageReference: SDA16A; Publisher: Altium Limited; PackageDescription: LLP, Plastic, Dual, 5 x 5 x 0.8mm Body,16 Lead, 0.5mm Pitch, No Pullback; RoHS: Y; PinCount: 16; DigiKeyPartNumber: LM25115SDCT-ND; ComponentLink1Description: LM25115 Datasheet; ComponentLink1URL: http://www.national.com/ds/LM/LM25115.pdf; ComponentLink2Description: LM25115 Web Page; ComponentLink2URL: http://www.national.com/pf/LM/LM25115.html; ComponentLink3Description: SDA16A Package Page; ComponentLink3URL: http://www.national.com/packaging/folders/sda16a.html
footprint SDA16A (SON, 16-Leads, Body 5x5mm, Pitch 0.5mm, NSC Recommended)
pins: 1 CS (in), 2 VOUT (in), 3 AGND (power), 4 CO (out), 5 COMP, 6 FB (in), 7 SS (in), 8 RAMP (in), 9 SYNC (in), 10 PGND (power), 11 LO (out), 12 VCC (power), 13 HS, 14 HO (out), 15 HB, 16 VBIAS (in), 17 EP (power)

## LM25116MH
designator U?
Wide Range Synchronous Buck Controller; PartNumber: LM25116MH; Manufacturer: National Semiconductor; CompType: MiscPower; PackageTopMarking: NSUZXYTT*LM25116*MH; PowerWise: Y; Published: 4-Dec-2008; DatasheetVersion: Apr-2007; PackageVersion: revC, Jul-2006; PackageReference: MXA20A; Publisher: Altium Limited; PackageDescription: Molded TSSOP, Jedec, 6.5 x 4.4 x 0.9mm Body, 20 Lead, 0.65mm Pitch, Exposed Pad; RoHS: Y; PinCount: 20; DigiKeyPartNumber: LM25116MH-ND; Code_JEDEC: MO-153-ACT; ComponentLink1Description: LM25116 Datasheet; ComponentLink1URL: http://www.national.com/ds/LM/LM25116.pdf; ComponentLink2Description: LM25116 Web Page; ComponentLink2URL: http://www.national.com/pf/LM/LM25116.html; ComponentLink3Description: MXA20A Package Page; ComponentLink3URL: http://www.national.com/packaging/folders/mxa20a.html
footprint MXA20A_N (TSOP, 20-Leads, Body 6.5x4.4mm, Pitch 0.65mm, Exposed Pad, IPC Medium Density)
footprint MXA20A_L (TSOP, 20-Leads, Body 6.5x4.4mm, Pitch 0.65mm, Exposed Pad, IPC High Density)
footprint MXA20A_M (TSOP, 20-Leads, Body 6.5x4.4mm, Pitch 0.65mm, Exposed Pad, IPC Low Density)
pins: 1 VIN (power), 2 ULVO (in), 3 RT/SYNC (in), 4 EN (in), 5 RAMP (in), 6 AGND (power), 7 SS (in), 8 FB (in), 9 COMP (out), 10 VOUT (in), 11 DEMB, 12 CS (in), 13 CSG, 14 PGND (power), 15 LO (out), 16 VCC (power), 17 VCCX (power), 18 HB, 19 HO (out), 20 SW (power), 21 EP (power)

## LM26480SQ-AA
designator U?
Externally Programmable Dual High-Current Step-Down DC/DC and Dual Linear Regulators; PartNumber: LM26480SQ-AA; Manufacturer: National Semiconductor; CompType: MiscPower; PackageTopMarking: NS*UZXYTT*26480AA; PowerWise: N; Published: 4-Dec-2008; DatasheetVersion: Sep-2008; PackageVersion: revB, Aug-2003; PackageReference: SQA24A; Publisher: Altium Limited; PackageDescription: LLP, Plastic, Quad, 4 x 4 x 0.8mm Body, 24 Lead, 0.5mm Pitch, No Pullback; RoHS: Y; PinCount: 24; DigiKeyPartNumber: LM26480SQ-AAEV-ND; Code_JEDEC: MO-220-WGGD-6; ComponentLink1Description: LM26480 Datasheet; ComponentLink1URL: http://www.national.com/ds/LM/LM26480.pdf; ComponentLink2Description: LM26480 Web Page; ComponentLink2URL: http://www.national.com/pf/LM/LM26480.html; ComponentLink3Description: SQA24A Package Page; ComponentLink3URL: http://www.national.com/packaging/folders/sqa24a.html
footprint SQA24A (QFN, 24-Leads, Body 4x4mm, Pitch 0.5mm, NSC Recommended)
pins: 1 VINLDO12 (power) "Analog Power for Internal Functions (VREF, BIAS, I2C, Logic)", 2 SYNC (in) "Frequency Synchronization pin.", 3 nPOR (oc) "nPOR Power on reset pin for both Buck1 and Buck 2.", 4 GND_SW1 (power) "Buck1 NMOS Power Ground", 5 SW1 (out) "Buck1 switcher output pin", 6 VIN1 (power) "Power in from either DC source or Battery to Buck1", 7 ENSW1 (in) "Enable Pin for Buck1 switcher, a logic HIGH enables Buck1. Pin cannot be left floating.", 8 FB1 (in) "Buck1 input feedback terminal", 9 GND_C (power) "Non-switching core ground pin", 10 AVDD (power) "Analog Power for Buck converters", 11 FB2 (in) "Buck2 input feedback terminal", 12 ENSW2 (in) "Enable Pin for Buck2 switcher, a logic HIGH enables Buck2. Pin cannot be left floating.", 13 VIN2 (power) "Power in from either DC source or Battery to Buck2", 14 SW2 (out) "Buck2 switcher output pin", 15 GND_SW2 (power) "Buck2 NMOS", 16 ENLDO2 (in) "LDO2 enable pin, a logic HIGH enables LDO2. Pin cannot be left floating.", 17 ENLDO1 (in) "LDO1 enable pin, a logic HIGH enables LDO1. Pin cannot be left floating.", 18 GND_L (power) "LDO ground", 19 VINLDO1 (power) "Power in from either DC source or battery to LDO1", 20 LDO1 (out) "LDO1 Output", 21 FBL1 (in) "LDO1 Feedback Terminal", 22 FBL2 (in) "LDO2 Feedback Terminal", 23 LDO2 (out) "LDO Output", 24 VINLDO2 (power) "Power in from either DC source or battery to LDO2.", 25 DAP (power)

## LM26484SQ
designator U?
Power Management Unit with Step-Down DC-DC Converters and LDO Controller; PartNumber: LM26484SQ; Manufacturer: National Semiconductor; CompType: MiscPower; PackageTopMarking: NS*UZXYTT*26484SQ; PowerWise: N; Published: 29-May-2009; DatasheetVersion: Nov-2008; PackageVersion: revA, Oct-2003; PackageReference: SQA24B; Publisher: Altium Limited; PackageDescription: LLP, Plastic, Quad, 5 x 4 x 0.8mm Body, 24 Lead, 0.5mm Pitch, No Pullback; RoHS: Y; PinCount: 24; DigiKeyPartNumber: LM26484SQ-ND; Code_JEDEC: MO-220-WGHD-1; ComponentLink1Description: LM26484 Datasheet; ComponentLink1URL: http://www.national.com/ds/LM/LM26484.pdf; ComponentLink2Description: LM26484 Web Page; ComponentLink2URL: http://www.national.com/pf/LM/LM26484.html; ComponentLink3Description: SQA24B Package Page; ComponentLink3URL: http://www.national.com/packaging/folders/sqa24b.html
footprint SQA24B (QFN, 24-Leads, Body 5x4mm, Pitch 0.5mm, NSC Recommended)
pins: 1 VIN1 (power), 2 ENSW1 (in), 3 FB1 (in), 4 AVIN (power), 5 FB2 (in), 6 ENSW2 (in), 7 VIN2 (power), 8 VIN2 (power), 9 SW2 (out), 10 SW2 (out), 11 PGND_SW2 (power), 12 PGND_SW2 (power), 13 ENLDO (in), 14 LDOGATE (out), 15 LDOFB (in), 16 AGND (power), 17 GND (power), 18 nPOR (out), 19 AVDD (power), 20 PGND_SW1 (power), 21 PGND_SW1 (power), 22 SW1 (out), 23 SW1 (out), 24 VIN1 (power), 25 DAP (power)

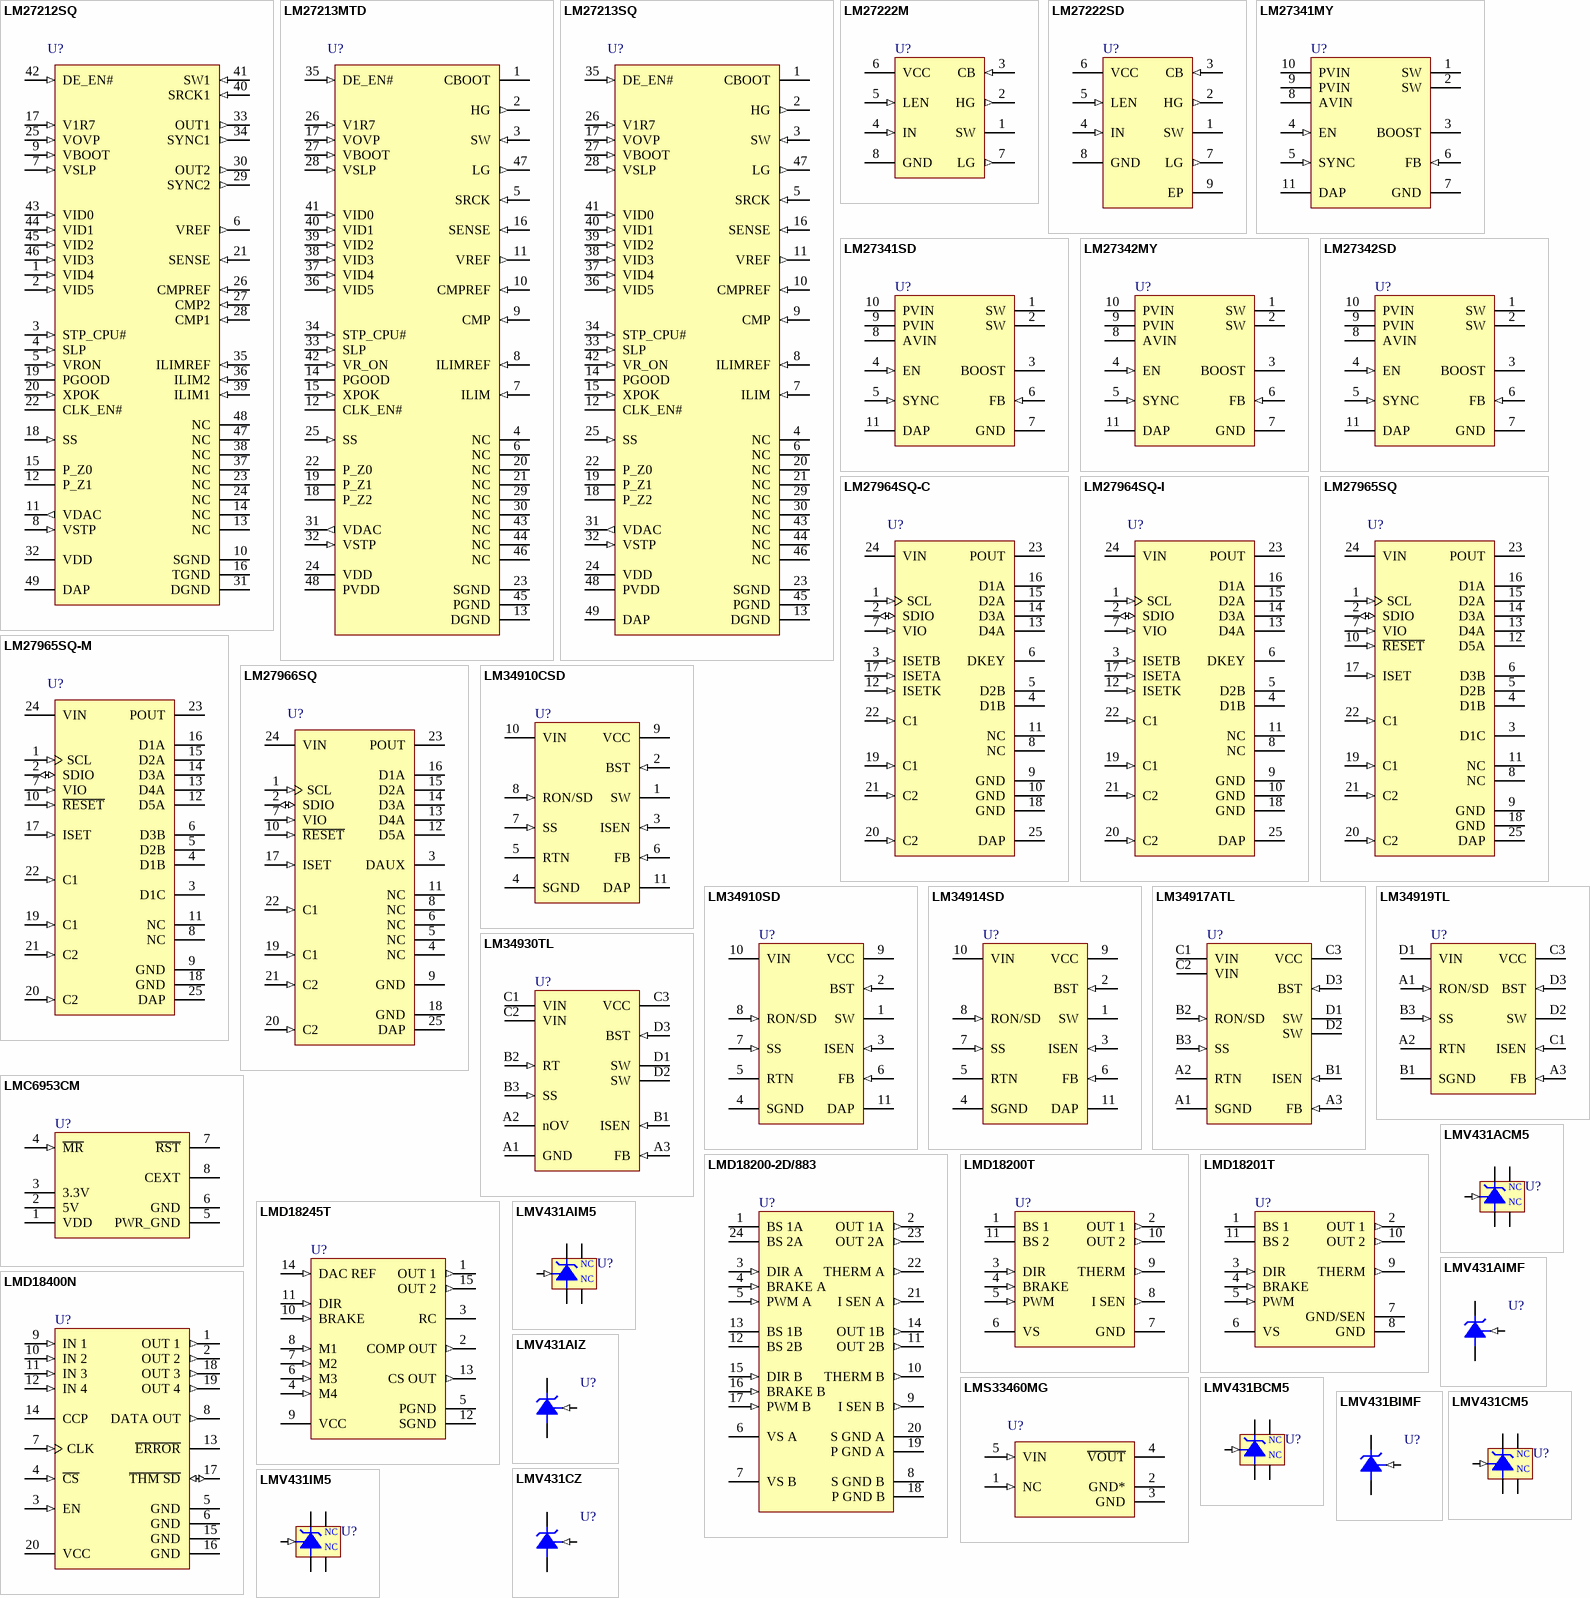
[diagram p18: symbols LM27212SQ to LMV431IM5]

## LM27212SQ
designator U?
Two-Phase Current-Mode Hysteretic Buck Controller; PartNumber: LM27212SQ; Manufacturer: National Semiconductor; CompType: MiscPower; PackageTopMarking: NS*UZXYTT*27212SQ; PowerWise: N; Published: 4-Dec-2008; DatasheetVersion: Mar-2006; PackageVersion: revA, May-2003; PackageReference: SQA48A; Publisher: Altium Limited; PackageDescription: LLP, Plastic, Quad, 7 x 7 x 0.8mm Body, 48 Lead, 0.5mm Pitch, No Pullback; RoHS: Y; PinCount: 48; DigiKeyPartNumber: LM27212SQCT-ND; Code_JEDEC: MO-220-WKKD-2; ComponentLink1Description: LM27212 Datasheet; ComponentLink1URL: http://www.national.com/ds/LM/LM27212.pdf; ComponentLink2Description: LM27212 Web Page; ComponentLink2URL: http://www.national.com/pf/LM/LM27212.html; ComponentLink3Description: SQA48A Package Page; ComponentLink3URL: http://www.national.com/packaging/folders/sqa48a.html
footprint SQA48A (QFN, 48-Leads, Body 7x7mm, Pitch 0.5mm, NSC Recommended)
pins: 1 VID4 (in), 2 VID5 (in), 3 STP_CPU# (in), 4 SLP (in), 5 VRON (in), 6 VREF (out), 7 VSLP (in), 8 VSTP (in), 9 VBOOT (in), 10 SGND (power), 11 VDAC (out), 12 P_Z1, 13 NC, 14 NC, 15 P_Z0, 16 TGND (power), 17 V1R7 (in), 18 SS (in), 19 PGOOD (oc), 20 XPOK (in), 21 SENSE (in), 22 CLK_EN# (oc), 23 NC, 24 NC, 25 VOVP (in), 26 CMPREF (in), 27 CMP2 (in), 28 CMP1 (in), 29 SYNC2 (out), 30 OUT2 (out), 31 DGND (power), 32 VDD (power), 33 OUT1 (out), 34 SYNC1 (out), 35 ILIMREF (in), 36 ILIM2 (in), 37 NC, 38 NC, 39 ILIM1 (in), 40 SRCK1 (in), 41 SW1 (in), 42 DE_EN# (in), 43 VID0 (in), 44 VID1 (in), 45 VID2 (in), 46 VID3 (in), 47 NC, 48 NC, 49 DAP (power)

## LM27213MTD
designator U?
Single Phase Hysteretic Buck Controller; PartNumber: LM27213MTD; Manufacturer: National Semiconductor; CompType: MiscPower; PackageTopMarking: NSUZXYTT*27213MTD; PowerWise: N; Published: 4-Dec-2008; DatasheetVersion: Feb-2006; PackageVersion: revE, Apr-2003; PackageReference: MTD48; Publisher: Altium Limited; PackageDescription: Molded TSSOP, Jedec, 12.5 x 6.1 x 0.9mm Body, 48 Lead, 0.50mm Pitch; RoHS: Y; PinCount: 48; DigiKeyPartNumber: LM27213MTD-ND; Code_JEDEC: MO-153-ED; ComponentLink1Description: LM27213 Datasheet; ComponentLink1URL: http://www.national.com/ds/LM/LM27213.pdf; ComponentLink2Description: LM27213 Web Page; ComponentLink2URL: http://www.national.com/pf/LM/LM27213.html; ComponentLink3Description: MTD48 Package Page; ComponentLink3URL: http://www.national.com/packaging/folders/mtd48.html
footprint MTD48_N (TSSOP, 48-Leads, Body 12.5x6.1mm, Pitch 0.5mm, IPC Medium Density)
footprint MTD48_L (TSSOP, 48-Leads, Body 12.5x6.1mm, Pitch 0.5mm, IPC High Density)
footprint MTD48_M (TSSOP, 48-Leads, Body 12.5x6.1mm, Pitch 0.5mm, IPC Low Density)
pins: 1 CBOOT, 2 HG (out), 3 SW (in), 4 NC, 5 SRCK (in), 6 NC, 7 ILIM (in), 8 ILIMREF (in), 9 CMP (in), 10 CMPREF (in), 11 VREF (out), 12 CLK_EN# (oc), 13 DGND (power), 14 PGOOD (oc), 15 XPOK (in), 16 SENSE (in), 17 VOVP (in), 18 P_Z2, 19 P_Z1, 20 NC, 21 NC, 22 P_Z0, 23 SGND (power), 24 VDD (power), 25 SS (in), 26 V1R7 (in), 27 VBOOT (in), 28 VSLP (in), 29 NC, 30 NC, 31 VDAC (out), 32 VSTP (in), 33 SLP (in), 34 STP_CPU# (in), 35 DE_EN# (in), 36 VID5 (in), 37 VID4 (in), 38 VID3 (in), 39 VID2 (in), 40 VID1 (in), 41 VID0 (in), 42 VR_ON (in), 43 NC, 44 NC, 45 PGND (power), 46 NC, 47 LG (out), 48 PVDD (power)

## LM27213SQ
designator U?
Single Phase Hysteretic Buck Controller; PartNumber: LM27213SQ; Manufacturer: National Semiconductor; CompType: MiscPower; PackageTopMarking: NS*UZXYTT*27213SQ; PowerWise: N; Published: 4-Dec-2008; DatasheetVersion: Feb-2006; PackageVersion: revA, May-2003; PackageReference: SQA48A; Publisher: Altium Limited; PackageDescription: LLP, Plastic, Quad, 7 x 7 x 0.8mm Body, 48 Lead, 0.5mm Pitch, No Pullback; RoHS: Y; PinCount: 48; DigiKeyPartNumber: LM27213SQ-ND; Code_JEDEC: MO-220-WKKD-2; ComponentLink1Description: LM27213 Datasheet; ComponentLink1URL: http://www.national.com/ds/LM/LM27213.pdf; ComponentLink2Description: LM27213 Web Page; ComponentLink2URL: http://www.national.com/pf/LM/LM27213.html; ComponentLink3Description: SQA48A Package Page; ComponentLink3URL: http://www.national.com/packaging/folders/sqa48a.html
footprint SQA48A (QFN, 48-Leads, Body 7x7mm, Pitch 0.5mm, NSC Recommended)
pins: 1 CBOOT, 2 HG (out), 3 SW (in), 4 NC, 5 SRCK (in), 6 NC, 7 ILIM (in), 8 ILIMREF (in), 9 CMP (in), 10 CMPREF (in), 11 VREF (out), 12 CLK_EN# (oc), 13 DGND (power), 14 PGOOD (oc), 15 XPOK (in), 16 SENSE (in), 17 VOVP (in), 18 P_Z2, 19 P_Z1, 20 NC, 21 NC, 22 P_Z0, 23 SGND (power), 24 VDD (power), 25 SS (in), 26 V1R7 (in), 27 VBOOT (in), 28 VSLP (in), 29 NC, 30 NC, 31 VDAC (out), 32 VSTP (in), 33 SLP (in), 34 STP_CPU# (in), 35 DE_EN# (in), 36 VID5 (in), 37 VID4 (in), 38 VID3 (in), 39 VID2 (in), 40 VID1 (in), 41 VID0 (in), 42 VR_ON (in), 43 NC, 44 NC, 45 PGND (power), 46 NC, 47 LG (out), 48 PVDD (power), 49 DAP (power)

## LM27222M
designator U?
High-Speed 4.5A Synchronous MOSFET Driver; PartNumber: LM27222M; Manufacturer: National Semiconductor; CompType: MiscPower; PackageTopMarking: NSZXTT*27222*M; PowerWise: N; Published: 4-Dec-2008; DatasheetVersion: Mar-2006; PackageVersion: revL, Sep-2006; PackageReference: M08A; Publisher: Altium Limited; PackageDescription: SOIC Narrow, 4.9 x 3.9 x 1.45mm, 8 Lead, 1.27mm Pitch; RoHS: O; PinCount: 8; DigiKeyPartNumber: LM27222M-ND; Code_JEDEC: MS-012-AA; Code_IPC: SOIC127P600-8; ComponentLink1Description: LM27222 Datasheet; ComponentLink1URL: http://www.national.com/ds/LM/LM27222.pdf; ComponentLink2Description: LM27222 Web Page; ComponentLink2URL: http://www.national.com/pf/LM/LM27222.html; ComponentLink3Description: M08A Package Page; ComponentLink3URL: http://www.national.com/packaging/folders/m08a.html
footprint M08A_N (SOIC, 8-Leads, Body 4.9x3.9mm, Pitch 1.27mm, IPC Medium Density)
footprint M08A_L (SOIC, 8-Leads, Body 4.9x3.9mm, Pitch 1.27mm, IPC High Density)
footprint M08A_M (SOIC, 8-Leads, Body 4.9x3.9mm, Pitch 1.27mm, IPC Low Density)
pins: 1 SW (power), 2 HG (out), 3 CB (in), 4 IN (in), 5 LEN (in), 6 VCC (power), 7 LG (out), 8 GND (power)

## LM27222SD
designator U?
High-Speed 4.5A Synchronous MOSFET Driver; PartNumber: LM27222SD; Manufacturer: National Semiconductor; CompType: MiscPower; PackageTopMarking: NS*UZXYTT*L27222S; PowerWise: N; Published: 4-Dec-2008; DatasheetVersion: Mar-2006; PackageVersion: revA, Jun-2003; PackageReference: SDC08A; Publisher: Altium Limited; PackageDescription: LLP, Plastic, Dual, 4 x 4 x 0.8mm Body, 8 Lead, 0.8mm Pitch, No Pullback; RoHS: Y; PinCount: 8; DigiKeyPartNumber: LM27222SD-ND; ComponentLink1Description: LM27222 Datasheet; ComponentLink1URL: http://www.national.com/ds/LM/LM27222.pdf; ComponentLink2Description: LM27222 Web Page; ComponentLink2URL: http://www.national.com/pf/LM/LM27222.html; ComponentLink3Description: SDC08A Package Page; ComponentLink3URL: http://www.national.com/packaging/folders/sdc08a.html
footprint SDC08A (SON, 8-Leads, Body 4x4mm, Pitch 0.8mm, NSC Recommended)
pins: 1 SW (power), 2 HG (out), 3 CB (in), 4 IN (in), 5 LEN (in), 6 VCC (power), 7 LG (out), 8 GND (power), 9 EP (power)

## LM27341MY
designator U?
2MHz 1.5A - Wide Input Range Buck Regulator with Frequency Synchronization; PartNumber: LM27341MY; Manufacturer: National Semiconductor; CompType: MiscPower; PackageTopMarking: ZXTT*SSCB; PowerWise: N; Published: 29-May-2009; DatasheetVersion: Dec-2008; PackageVersion: revA, May-2006; PackageReference: MUC10A; Publisher: Altium Limited; PackageDescription: Molded Mini-SO, Exposed Pad .118 x .118 x .034in Body, 10 Lead, .0197in Pitch; RoHS: Y; PinCount: 10; DigiKeyPartNumber: LM27341MYCT-ND; Code_JEDEC: MO-187-BAT; ComponentLink1Description: LM27341 Datasheet; ComponentLink1URL: http://www.national.com/ds/LM/LM27341.pdf; ComponentLink2Description: LM27341 Web Page; ComponentLink2URL: http://www.national.com/pf/LM/LM27341.html; ComponentLink3Description: MUC10A Package Page; ComponentLink3URL: http://www.national.com/packaging/folders/muc10a.html
footprint MUC10A_N (TSSOP, 10-Leads, Body 3x3mm, Pitch 0.5mm, Exposed Pad, IPC Medium Density)
footprint MUC10A_L (TSSOP, 10-Leads, Body 3x3mm, Pitch 0.5mm, Exposed Pad, IPC High Density)
footprint MUC10A_M (TSSOP, 10-Leads, Body 3x3mm, Pitch 0.5mm, Exposed Pad, IPC Low Density)
pins: 1 SW (power), 2 SW (power), 3 BOOST, 4 EN (in), 5 SYNC (in), 6 FB (in), 7 GND (power), 8 AVIN (power), 9 PVIN (power), 10 PVIN (power), 11 DAP (power)